# EAGLE library part 74*595 (library 74ttl-din)
8-bit SHIFT REGISTER, output latch
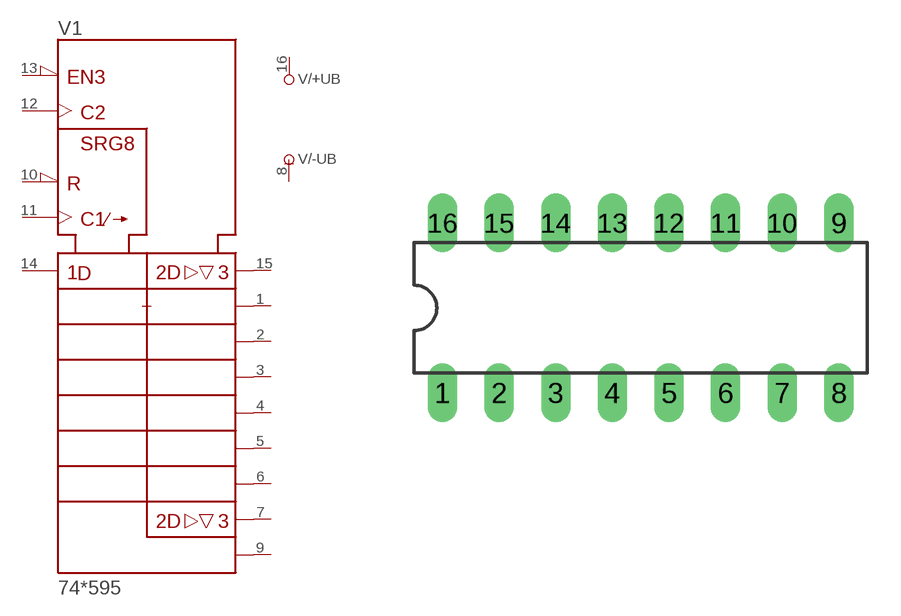
[diagram p112: symbol with the pads of DIL16; footprint DIL16]

Designator prefix V; gates /+UB=+UB /-UB=-UB 1=595

## 74595N  [DIL16]
1  1:QB  hiz
2  1:QC  hiz
3  1:QD  hiz
4  1:QE  hiz
5  1:QF  hiz
6  1:QG  hiz
7  1:QH  hiz
8  /-UB:-UB  pwr
9  1:QH*  out
10  1:!SRCLR  in
11  1:SRCK  in
12  1:RCK  in
13  1:!G  in
14  1:SER  in
15  1:QA  hiz
16  /+UB:+UB  pwr

## Footprint DIL16 (pad centres in mm)
Dual In Line Package
drill 0.813 long: 1 -8.89,-3.81; 2 -6.35,-3.81; 3 -3.81,-3.81; 4 -1.27,-3.81; 5 1.27,-3.81; 6 3.81,-3.81; 7 6.35,-3.81; 8 8.89,-3.81; 9 8.89,3.81; 10 6.35,3.81; 11 3.81,3.81; 12 1.27,3.81; 13 -1.27,3.81; 14 -3.81,3.81; 15 -6.35,3.81; 16 -8.89,3.81